# EAGLE library part DRIVER_TMC2209 (library UNKNOWN-2024)
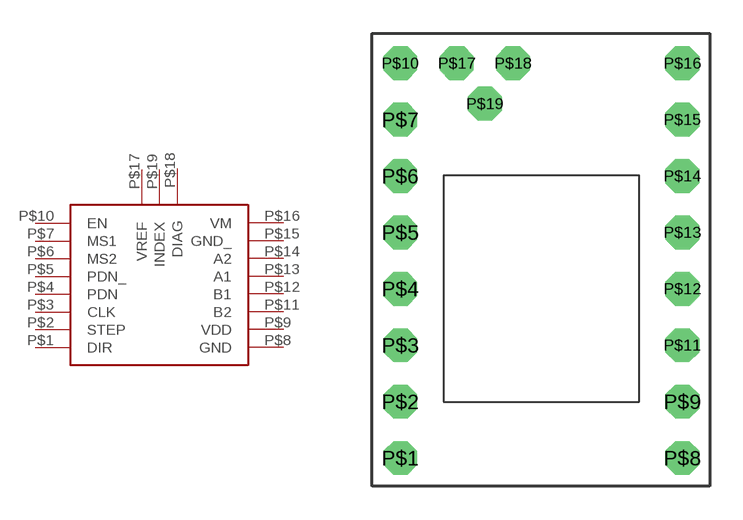
[diagram p10: symbol with the pads of DRIVER_TMC2209; footprint DRIVER_TMC2209]

Designator prefix -

## DRIVER_TMC2209  [DRIVER_TMC2209]
P$1  DIR
P$2  STEP
P$3  CLK
P$4  PDN
P$5  PDN_
P$6  MS2
P$7  MS1
P$8  GND
P$9  VDD
P$10  EN
P$11  B2
P$12  B1
P$13  A1
P$14  A2
P$15  GND_
P$16  VM
P$17  VREF
P$18  DIAG
P$19  INDEX

## Footprint DRIVER_TMC2209 (pad centres in mm)
drill 1.016 octagon: P$1 -6.35,-8.89; P$2 -6.35,-6.35; P$3 -6.35,-3.81; P$4 -6.35,-1.27; P$5 -6.35,1.27; P$6 -6.35,3.81; P$7 -6.35,6.35; P$8 6.35,-8.89; P$9 6.35,-6.35; P$10 -6.35,8.89; P$11 6.35,-3.81; P$12 6.35,-1.27; P$13 6.35,1.27; P$14 6.35,3.81; P$15 6.35,6.35; P$16 6.35,8.89; P$17 -3.81,8.89; P$18 -1.27,8.89; P$19 -2.54,7.065